# Altium footprint library QFN40P180X140X75_HS-10L.PcbLib: 1 footprints
Each footprint in its own frame and in the unit in brackets; x right, y up, seen from the top. Pads: shape width x height; smd on the part's side, far side on the other; paste and mask are expansions set on the pad; w line width, h text height; cw(c..) or ccw(c..) is an arc to the next point about the centre after c.
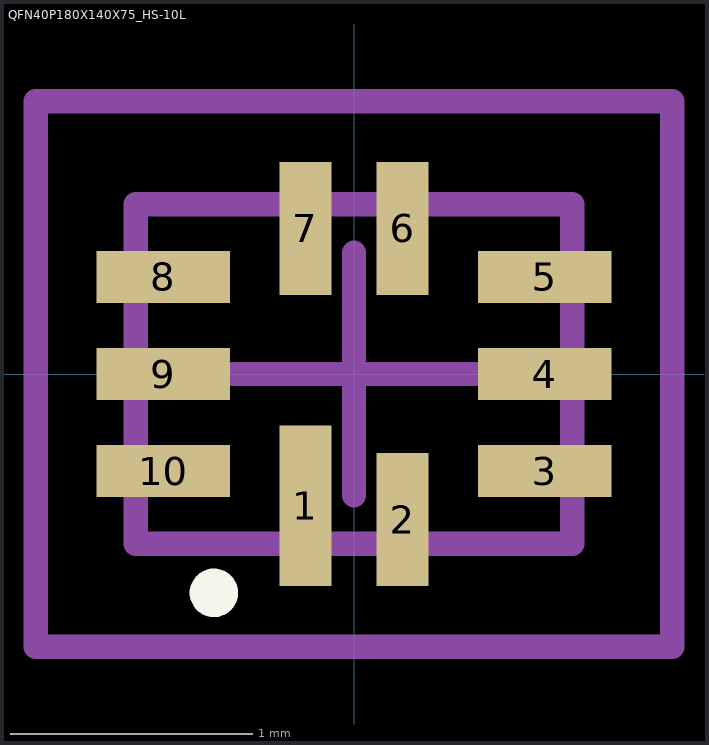
[diagram p0: the footprint, top view; thin cyan lines are the x and y axes]

## QFN40P180X140X75_HS-10L [mm] "QFN, 10-Leads, Body 1.80x1.40mm, Pitch 0.40mm, Thermal Pad 0.63x1.02mm, IPC High Density"
height 0.75
pads (10):
  rect 0.215x0.663 smd: 1(-0.2,-0.544)
  rect 0.215x0.55 smd: 2(0.2,-0.6) 6(0.2,0.6) 7(-0.2,0.6)
  rect 0.55x0.215 smd: 3(0.787,-0.4) 4(0.787,0) 5(0.787,0.4) 8(-0.787,0.4) 9(-0.787,0) 10(-0.787,-0.4)
Top Overlay:
  circle w0.1: c-0.577,-0.902 r0.05
Mechanical 13:
  lines w0.1: -0.9,-0.7 -0.9,0.7 0.9,0.7 0.9,-0.7 -0.9,-0.7
Mechanical 15:
  lines w0.1: -0.5,0 0.5,0 ; 0,-0.5 0,0.5 ; -1.312,-1.125 -1.312,1.125 1.312,1.125 1.312,-1.125 -1.312,-1.125
3D body: height 0.73, standoff -0.02, extent -0.91,-0.71 0.91,0.71